# EAGLE library part MC3362 (library paparazzi3)
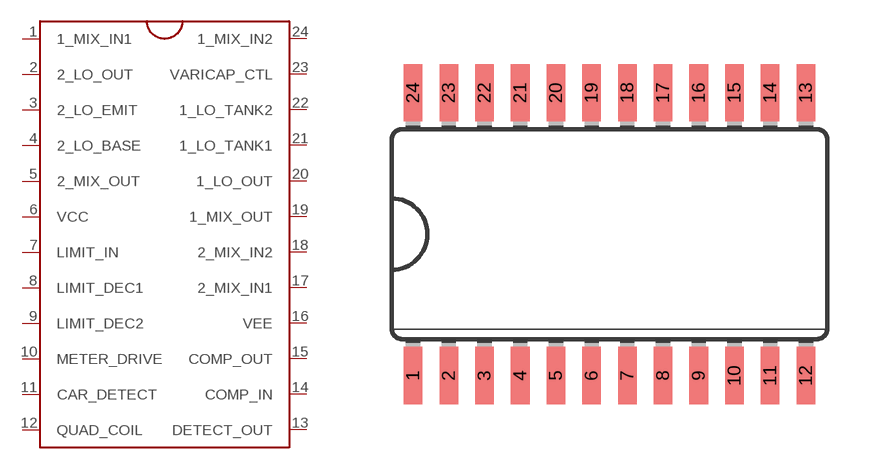
[diagram p1: symbol with the pads of SO24L; footprint SO24L]

Designator prefix -

## MC3362  [SO24L]
1  1_MIX_IN1
2  2_LO_OUT
3  2_LO_EMIT
4  2_LO_BASE
5  2_MIX_OUT
6  VCC
7  LIMIT_IN
8  LIMIT_DEC1
9  LIMIT_DEC2
10  METER_DRIVE
11  CAR_DETECT
12  QUAD_COIL
13  DETECT_OUT
14  COMP_IN
15  COMP_OUT
16  VEE
17  2_MIX_IN1
18  2_MIX_IN2
19  1_MIX_OUT
20  1_LO_OUT
21  1_LO_TANK1
22  1_LO_TANK2
23  VARICAP_CTL
24  1_MIX_IN2

## Footprint SO24L (pad centres in mm)
Small Outline package large
smd 0.66 x 2.032: 1 -6.985,-5.029; 2 -5.715,-5.029; 3 -4.445,-5.029; 4 -3.175,-5.029; 5 -1.905,-5.029; 6 -0.635,-5.029; 7 0.635,-5.029; 8 1.905,-5.029; 9 3.175,-5.029; 10 4.445,-5.029; 11 5.715,-5.029; 12 6.985,-5.029; 13 6.985,5.029; 14 5.715,5.029; 15 4.445,5.029; 16 3.175,5.029; 17 1.905,5.029; 18 0.635,5.029; 19 -0.635,5.029; 20 -1.905,5.029; 21 -3.175,5.029; 22 -4.445,5.029; 23 -5.715,5.029; 24 -6.985,5.029